# Altium schematic symbol library Fuse.SchLib: 1 symbol
Pins are listed as number, name and electrical type; pins without a type are passive.

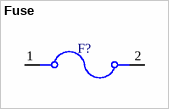
[diagram p0: symbol Fuse]

## Fuse
designator F?  (value not drawn)
4A 125V AC 125V DC Fuse Board Mount _Cartridge Style Excluded_ Holder, Surface Mount 2-SMD, Square End Block with Holder; MF: Littelfuse Inc.; MP: 0154004.DR; Digi-Key_Part_Number: F1227CT-ND; SnapEDA_Link: https://www.snapeda.com/parts/0154004.DR/Littelfuse%20Inc./view-part/1215896/?ref=snap; Value: *; Digi-Key_Purchase_URL: https://www.digikey.com/product-detail/en/littelfuse-inc/0154004.DR/F1227CT-ND/183376?utm_source=snapeda&utm_medium=aggregator&utm_campaign=symbol; Package: SMD-2 Littelfuse
footprint FUSE
pins: 1, 2